# EAGLE library part 6-PIN_2MM-* (library RoboJackets-Connectors)
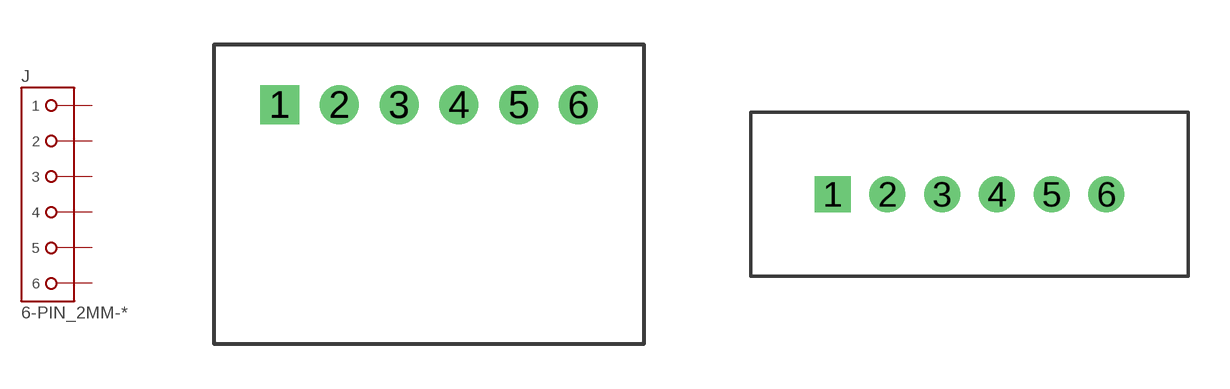
[diagram p1: symbol with the pads of 2MM-6-H; footprints 2MM-6-H, 2MM-6-V]

Designator prefix J

## 6-PIN_2MM-H (PINS: 6; PIN_PITCH: 2.0 mm)  [2MM-6-H]
1  1  pas
2  2  pas
3  3  pas
4  4  pas
5  5  pas
6  6  pas

## 6-PIN_2MM-V (PINS: 6; PIN_PITCH: 2.0 mm)  [2MM-6-V]
Pads as for 2MM-6-H

## Footprint 2MM-6-H (pad centres in mm)
drill 0.8 square: 1 -4,0
drill 0.8: 2 -2,0; 3 0,0; 4 2,0; 5 4,0; 6 6,0

## Footprint 2MM-6-V (pad centres in mm)
drill 0.8 square: 1 -4,0
drill 0.8: 2 -2,0; 3 0,0; 4 2,0; 5 4,0; 6 6,0